# Altium schematic symbol library LVDT33.SchLib: 1 symbol
Pins are listed as number, name and electrical type; pins without a type are passive.

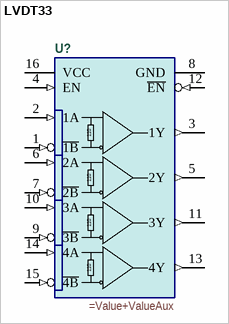
[diagram p0: symbol LVDT33]

## LVDT33
designator U?
=Description
pins: 1 ~{1B} (in), 2 1A (in), 3 1Y (out), 4 EN (in), 5 2Y (out), 6 2A (in), 7 ~{2B} (in), 8 GND (power), 9 ~{3B} (in), 10 3A (in), 11 3Y (out), 12 ~{EN} (in), 13 4Y (out), 14 4A (in), 15 ~{4B} (in), 16 VCC (power)
text: 110